# Altium footprint library Н04.16-1В.PcbLib: 1 footprints
Each footprint in its own frame and in the unit in brackets; x right, y up, seen from the top. Pads: shape width x height; smd on the part's side, far side on the other; paste and mask are expansions set on the pad; w line width, h text height; cw(c..) or ccw(c..) is an arc to the next point about the centre after c.
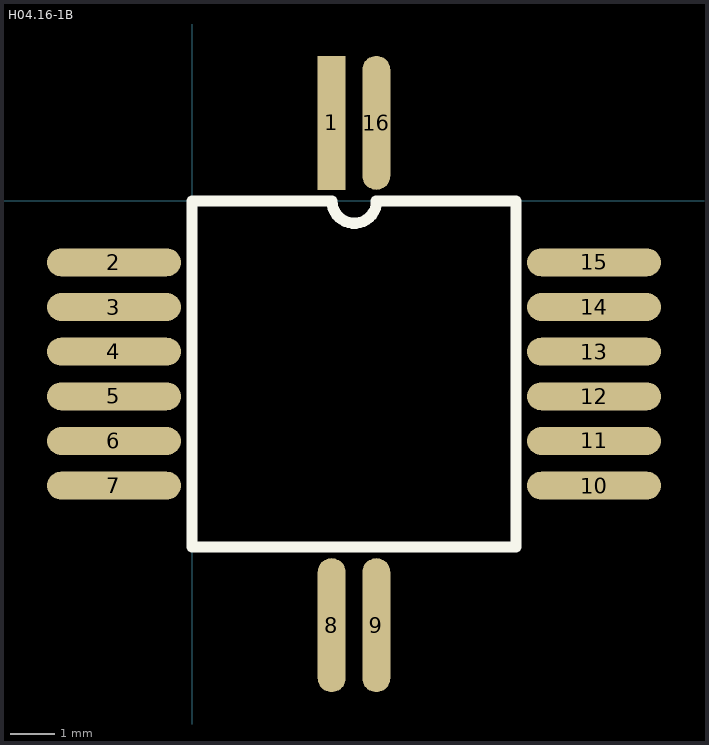
[diagram p0: the footprint, top view; thin cyan lines are the x and y axes]

## Н04.16-1В [mil]
pads (16):
  rect 25x120 smd: 1(125,70)
  oval 120x25 smd: 2(-70,-55) 3(-70,-95) 4(-70,-135) 5(-70,-175) 6(-70,-215) 7(-70,-255) 10(360,-255) 11(360,-215) 12(360,-175) 13(360,-135) 14(360,-95) 15(360,-55)
  oval 25x120 smd: 8(125,-380) 9(165,-380) 16(165,70)
Top Overlay:
  lines w10: 125,0 0,0 0,-310 290,-310 290,0 165,0 ; 125.25,0 ccw(c145.25,0) 165.25,0
3D body: height 120, standoff 0, extent 0,-310 290,0